# Altium schematic symbol library drv8825.SchLib: 9 symbols
Pins are listed as number, name and electrical type; pins without a type are passive.

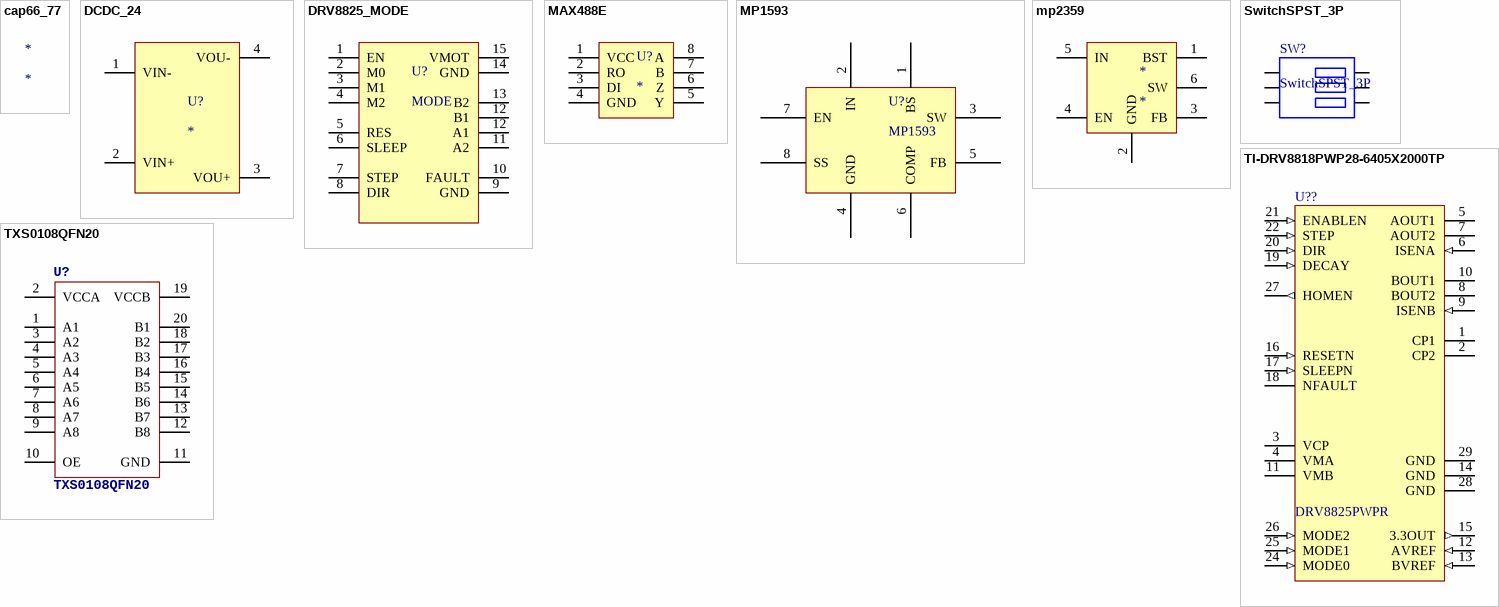
[diagram p0: symbols cap66_77 to TXS0108QFN20]

## cap66_77
designator *

## DCDC_24
designator U?
DCDC
footprint DCDC_24
pins: 1 VIN-, 2 VIN+, 3 VOU+, 4 VOU-

## DRV8825_MODE
designator U?, comment MODE
pins: 1 EN, 2 M0, 3 M1, 4 M2, 5 RES, 6 SLEEP, 7 STEP, 8 DIR, 9 GND, 10 FAULT, 11 A2, 12 A1, 12 B1, 13 B2, 14 GND, 15 VMOT

## MAX488E
designator U?
footprint SOP_E150_8
pins: 1 VCC, 2 RO, 3 DI, 4 GND, 5 Y, 6 Z, 7 B, 8 A

## MP1593
designator U?
footprint SOIC_E200_8
pins: 1 BS, 2 IN, 3 SW, 4 GND, 5 FB, 6 COMP, 7 EN, 8 SS

## mp2359
designator *
pins: 1 BST, 2 GND, 3 FB, 4 EN, 5 IN, 6 SW

## SwitchSPST_3P
designator SW?
Switch
footprint SwitchSPDT_P2_180
pins: 1 COMMON, 1ON ON, 2 COMMON, 2ON NO, 3 COMMON, 3ON NO

## TI-DRV8818PWP28-6405X2000TP
designator U??, comment DRV8825PWPR
2.5 A Bipolar Stepper Motor Driver with On-Chip 1/8 MicroStepping Indexer (Step / Dir Ctrl), 8 to 35 V, -40 to 85 degC, 28-pin SOP (PWP28), Green (RoHS & no Sb/Br); PartNumber: DRV8818PWPR; Peak Output Current(A): 2.5; Vs(Max)(V): 35; RMS Output Current(A): 1.75; Vs(Min)(V): 8; rDS (ON) (LS + HS)(mOhms): 370; ComponentLink1URL: http://www.ti.com/; PackageDescription: 28-Pin Plastic Small Outline, Body 4.4 x 9.7 mm, Pitch 0.65 mm; Package Reference: PWP0028D; ComponentLink1Description: Manufacturer URL; ComponentLink2Description: Datasheet; Code_JEDEC: MO-153; ComponentLink2URL: http://www.ti.com/general/docs/lit/getliterature.tsp?genericPartNumber=DRV8818&fileType=pdf; DatasheetVersion: SLVSAX9B; ComponentLink3Description: Package Specification; Mounting Technology: Surface Mount; Eco-Plan: Green (RoHS & no Sb/Br); ComponentLink3URL: http://www.ti.com/litv/pdf/mpds373; PackageVersion: 4073225-6/I, 05/2011; Control I/F: INDEXER
footprint PWP0028D_L (SOP, 28-leads, Body 4.5x9.8mm, Pitch 0.65mm, Thermal Pad 2.4x6.46mm, IPC High Density)
footprint PWP0028D_N (SOP, 28-leads, Body 4.5x9.8mm, Pitch 0.65mm, Thermal Pad 2.4x6.46mm, IPC Medium Density)
footprint PWP0028D_M (SOP, 28-leads, Body 4.5x9.8mm, Pitch 0.65mm, Thermal Pad 2.4x6.46mm, IPC Low Density)
pins: 1 CP1 "Charge pump flying capacitor", 2 CP2 "Charge pump flying capacitor", 3 VCP "High-side gate drive voltage", 4 VMA (power) "Bridge A power supply", 5 AOUT1 (hiz) "Bridge A output 1", 6 ISENA (in) "Bridge A ground / Isense", 7 AOUT2 (hiz) "Bridge A output 2", 8 BOUT2 (hiz) "Bridge B output 2", 9 ISENB (in) "Bridge B ground / Isense", 10 BOUT1 (hiz) "Bridge B output 1", 11 VMB (power) "Bridge B power supply", 12 AVREF (in) "Current set reference input", 13 BVREF (in) "Microstep mode 0", 14 GND (power) "Device ground", 15 3.3OUT (out), 16 RESETN (in) "Reset input", 17 SLEEPN (in) "Sleep mode input", 18 NFAULT, 19 DECAY (in) "Decay mode select", 20 DIR (in) "Direction input", 21 ENABLEN (in) "Enable input", 22 STEP (in) "Step input", 24 MODE0 (in), 25 MODE1 (in), 26 MODE2 (in), 27 HOMEN (out) "Home position", 28 GND (power) "Device ground", 29 GND (power)

## TXS0108QFN20
designator U?
PARTNO: TXS0108ERGYR
footprint QFN20-RGY
pins: 1 A1, 2 VCCA, 3 A2, 4 A3, 5 A4, 6 A5, 7 A6, 8 A7, 9 A8, 10 OE, 11 GND (oe), 12 B8, 13 B7, 14 B6, 15 B5, 16 B4, 17 B3, 18 B2, 19 VCCB, 20 B1